# Altium schematic symbol library HeatSink_SCH.SchLib: 1 symbol
Pins are listed as number, name and electrical type; pins without a type are passive.

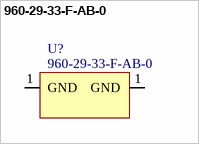
[diagram p0: symbol 960-29-33-F-AB-0]

## 960-29-33-F-AB-0
designator U?
XXX - Description - Package; GRAMS Lib Spec: 2.7
footprint 3960-29-33-F-AB-0
pins: 1 GND, 1 GND